# Altium integrated library Renesas Logic.IntLib: 1013 symbols (part 18 of 27)
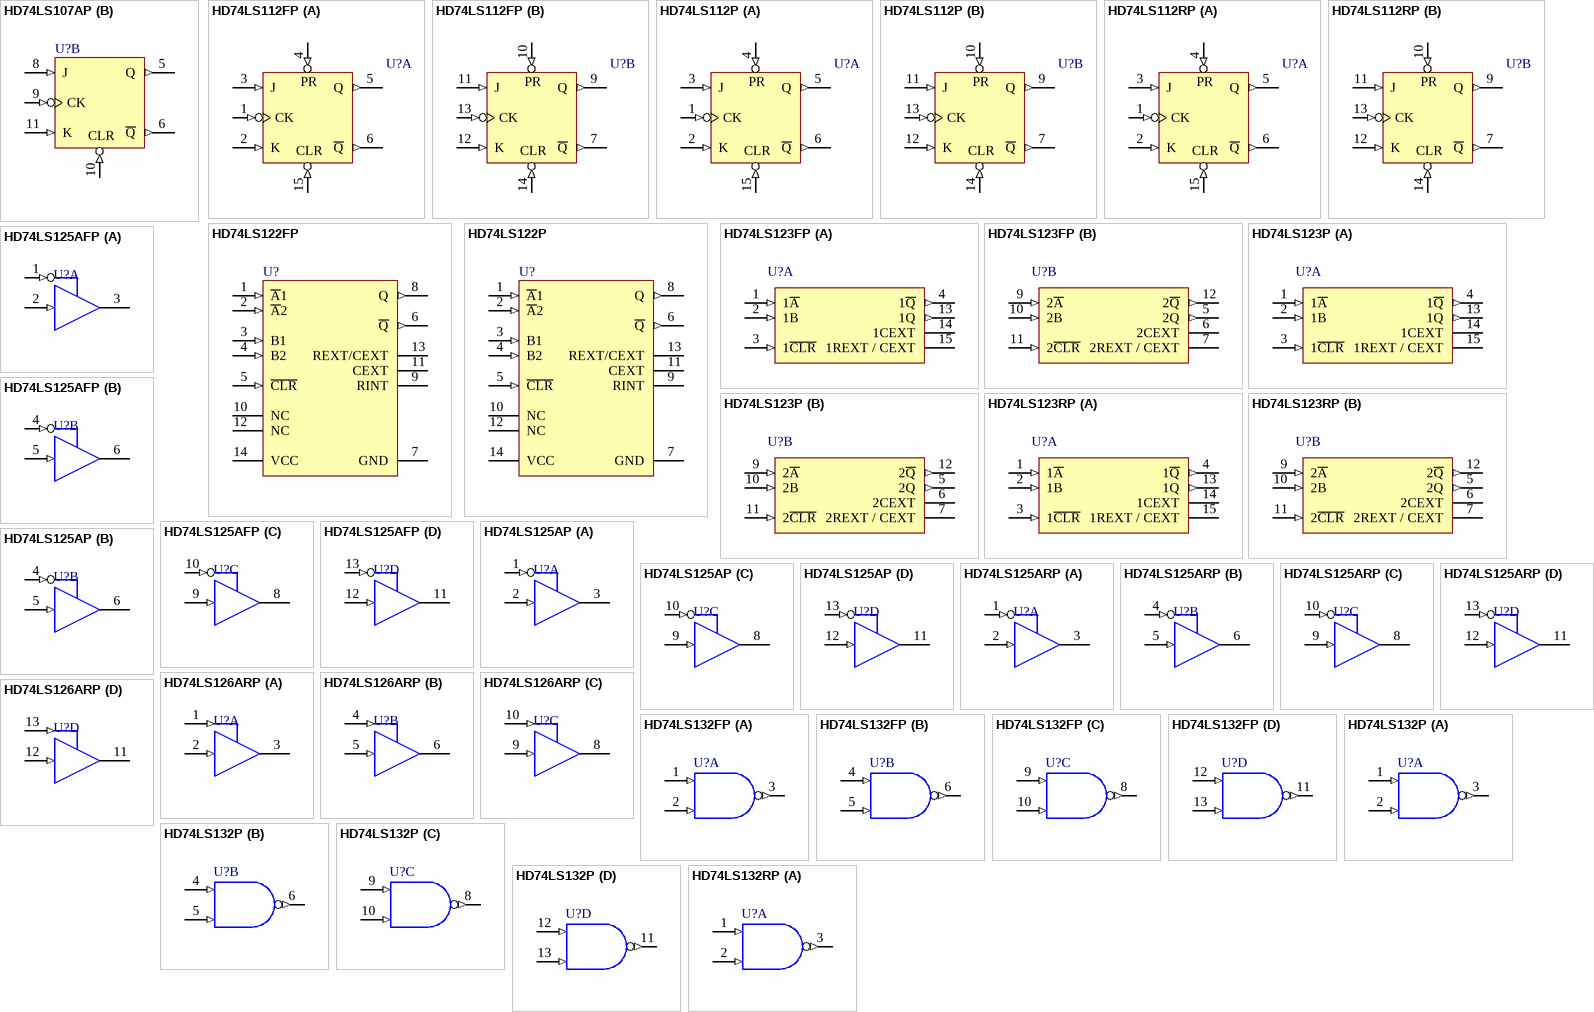
[diagram p70: symbols HD74LS107AP to HD74LS132RP]

## HD74LS123RP
designator U?
Dual Retriggerable Monostable Multivibrators with Clear; Published: 10-Feb-2010; DatasheetVersion: Rev.2.00, Feb-2005; PackageVersion: Sep-2005; PackageReference: PRSP0016DG-A; Publisher: Altium Limited; PackageDescription: 16-Pin Plastic Small Outline Integrated Circuit, 9.9 x 3.95 mm Body, 1.27 mm Pitch; Code_JEITA: P-SOP16-3.95x9.9-1.27; Code_IPC: SOIC127P600-16; ComponentLink1Description: Manufacturer Link; ComponentLink1URL: http://sg.renesas.com/fmwk.jsp?cnt=hd74ls_root.jsp&fp=/products/standard_ic/general_purpose_logic/5v_standard_logic/hd74ls/; ComponentLink2Description: Datasheet; ComponentLink2URL: http://documentation.renesas.com/eng/products/logic/rej03d0429_hd74ls123.pdf; ComponentLink3Description: Packaging Specification; ComponentLink3URL: http://sg.renesas.com/media/products/common_info/package/pdf/ic/code/prsp0016dg_a.pdf
footprint PRSP0016DG-A_N (SOIC, 16-Leads, Body 9.9x3.95mm, Pitch 1.27mm, IPC Medium Density)
footprint PRSP0016DG-A_L (SOIC, 16-Leads, Body 9.9x3.95mm, Pitch 1.27mm, IPC High Density)
footprint PRSP0016DG-A_M (SOIC, 16-Leads, Body 9.9x3.95mm, Pitch 1.27mm, IPC Low Density)
pins on every part: 8 GND (power) hidden, 16 VCC (power) hidden
part A pins: 1 1~{A} (in), 2 1B (in), 3 1~{CLR} (in), 4 1~{Q} (out), 13 1Q (out), 14 1CEXT, 15 1REXT / CEXT
part B pins: 5 2Q (out), 6 2CEXT, 7 2REXT / CEXT, 9 2~{A} (in), 10 2B (in), 11 2~{CLR} (in), 12 2~{Q} (out)

## HD74LS125AFP
designator U?
Quad Bus Buffer Gates with 3-State Outputs; Published: 10-Feb-2010; DatasheetVersion: Rev.2.00, Feb-2005; PackageVersion: Sep-2005; PackageReference: PRSP0014DF-B; Publisher: Altium Limited; PackageDescription: 14-Pin Plastic Small Outline Package, 10.06 x 5.5 mm Body, 1.27 mm Pitch; Code_JEITA: P-SOP14-5.5x10.06-1.27; ComponentLink1Description: Manufacturer Link; ComponentLink1URL: http://sg.renesas.com/fmwk.jsp?cnt=hd74ls_root.jsp&fp=/products/standard_ic/general_purpose_logic/5v_standard_logic/hd74ls/; ComponentLink2Description: Datasheet; ComponentLink2URL: http://documentation.renesas.com/eng/products/logic/rej03d0430_hd74ls125a.pdf; ComponentLink3Description: Packaging Specification; ComponentLink3URL: http://sg.renesas.com/media/products/common_info/package/pdf/ic/code/prsp0014df_b.pdf
footprint PRSP0014DF-B_N (SOP, 14-Leads, Body 10.06x5.5mm, Pitch 1.27mm, IPC Medium Density)
footprint PRSP0014DF-B_L (SOP, 14-Leads, Body 10.06x5.5mm, Pitch 1.27mm, IPC High Density)
footprint PRSP0014DF-B_M (SOP, 14-Leads, Body 10.06x5.5mm, Pitch 1.27mm, IPC Low Density)
pins on every part: 7 GND (power) hidden, 14 VCC (power) hidden
part A pins: 1 1~{C} (in), 2 1A (in), 3 1Y (hiz)
part B pins: 4 2~{C} (in), 5 2A (in), 6 2Y (hiz)
part C pins: 8 3Y (hiz), 9 3A (in), 10 3~{C} (in)
part D pins: 11 4Y (hiz), 12 4A (in), 13 4~{C} (in)

## HD74LS125AP
designator U?
Quad Bus Buffer Gates with 3-State Outputs; Published: 10-Feb-2010; DatasheetVersion: Rev.2.00, Feb-2005; PackageVersion: Sep-2005; PackageReference: PRDP0014AB-B; Publisher: Altium Limited; PackageDescription: 14-Pin Plastic DIP, 19.2 x 6.3 mm Body, 7.62 mm Row Spacing, Pitch 2.54 mm; Code_JEITA: P-DIP14-6.3x19.2-2.54; ComponentLink1Description: Manufacturer Link; ComponentLink1URL: http://sg.renesas.com/fmwk.jsp?cnt=hd74ls_root.jsp&fp=/products/standard_ic/general_purpose_logic/5v_standard_logic/hd74ls/; ComponentLink2Description: Datasheet; ComponentLink2URL: http://documentation.renesas.com/eng/products/logic/rej03d0430_hd74ls125a.pdf; ComponentLink3Description: Packaging Specification; ComponentLink3URL: http://sg.renesas.com/media/products/common_info/package/pdf/ic/code/prdp0014ab_b.pdf
footprint PRDP0014AB-B (DIP, 14-Leads, Row Spacing 7.62mm, Pitch 2.54mm, Body 19.2x6.3mm)
pins on every part: 7 GND (power) hidden, 14 VCC (power) hidden
part A pins: 1 1~{C} (in), 2 1A (in), 3 1Y (hiz)
part B pins: 4 2~{C} (in), 5 2A (in), 6 2Y (hiz)
part C pins: 8 3Y (hiz), 9 3A (in), 10 3~{C} (in)
part D pins: 11 4Y (hiz), 12 4A (in), 13 4~{C} (in)

## HD74LS125ARP
designator U?
Quad Bus Buffer Gates with 3-State Outputs; Published: 10-Feb-2010; DatasheetVersion: Rev.2.00, Feb-2005; PackageVersion: Sep-2005; PackageReference: PRSP0014DE-A; Publisher: Altium Limited; PackageDescription: 14-Pin Plastic Small Outline Integrated Circuit 8.65 x 3.95 mm Body, 1.27 mm Pitch; Code_JEITA: P-SOP14-3.95x8.65-1.27; ComponentLink1Description: Manufacturer Link; ComponentLink1URL: http://sg.renesas.com/fmwk.jsp?cnt=hd74ls_root.jsp&fp=/products/standard_ic/general_purpose_logic/5v_standard_logic/hd74ls/; ComponentLink2Description: Datasheet; ComponentLink2URL: http://documentation.renesas.com/eng/products/logic/rej03d0430_hd74ls125a.pdf; ComponentLink3Description: Packaging Specification; ComponentLink3URL: http://sg.renesas.com/media/products/common_info/package/pdf/ic/code/prsp0014de_a.pdf
footprint PRSP0014DE-A_N (SOIC, 14-Leads, Body 8.65x3.95mm, Pitch 1.27mm, IPC Medium Density)
footprint PRSP0014DE-A_L (SOIC, 14-Leads, Body 8.65x3.95mm, Pitch 1.27mm, IPC High Density)
footprint PRSP0014DE-A_M (SOIC, 14-Leads, Body 8.65x3.95mm, Pitch 1.27mm, IPC Low Density)
pins on every part: 7 GND (power) hidden, 14 VCC (power) hidden
part A pins: 1 1~{C} (in), 2 1A (in), 3 1Y (hiz)
part B pins: 4 2~{C} (in), 5 2A (in), 6 2Y (hiz)
part C pins: 8 3Y (hiz), 9 3A (in), 10 3~{C} (in)
part D pins: 11 4Y (hiz), 12 4A (in), 13 4~{C} (in)

## HD74LS126ARP
designator U?
Quad Bus Buffer Gates with 3-State Outputs; Published: 10-Feb-2010; DatasheetVersion: Rev.3.00, Jul-2005; PackageVersion: Sep-2005; PackageReference: PRSP0014DE-A; Publisher: Altium Limited; PackageDescription: 14-Pin Plastic Small Outline Integrated Circuit 8.65 x 3.95 mm Body, 1.27 mm Pitch; Code_JEITA: P-SOP14-3.95x8.65-1.27; ComponentLink1Description: Manufacturer Link; ComponentLink1URL: http://sg.renesas.com/fmwk.jsp?cnt=hd74ls_root.jsp&fp=/products/standard_ic/general_purpose_logic/5v_standard_logic/hd74ls/; ComponentLink2Description: Datasheet; ComponentLink2URL: http://documentation.renesas.com/eng/products/logic/rej03d0431_hd74ls126a.pdf; ComponentLink3Description: Packaging Specification; ComponentLink3URL: http://sg.renesas.com/media/products/common_info/package/pdf/ic/code/prsp0014de_a.pdf
footprint PRSP0014DE-A_N (SOIC, 14-Leads, Body 8.65x3.95mm, Pitch 1.27mm, IPC Medium Density)
footprint PRSP0014DE-A_L (SOIC, 14-Leads, Body 8.65x3.95mm, Pitch 1.27mm, IPC High Density)
footprint PRSP0014DE-A_M (SOIC, 14-Leads, Body 8.65x3.95mm, Pitch 1.27mm, IPC Low Density)
pins on every part: 7 GND (power) hidden, 14 VCC (power) hidden
part A pins: 1 1C (in), 2 1A (in), 3 1Y (hiz)
part B pins: 4 2C (in), 5 2A (in), 6 2Y (hiz)
part C pins: 8 3Y (hiz), 9 3A (in), 10 3C (in)
part D pins: 11 4Y (hiz), 12 4A (in), 13 4C (in)

## HD74LS132FP
designator U?
Quad 2-Input NAND Schmitt Triggers; Published: 10-Feb-2010; DatasheetVersion: Rev.3.00, Jul-2005; PackageVersion: Sep-2005; PackageReference: PRSP0014DF-B; Publisher: Altium Limited; PackageDescription: 14-Pin Plastic Small Outline Package, 10.06 x 5.5 mm Body, 1.27 mm Pitch; Code_JEITA: P-SOP14-5.5x10.06-1.27; ComponentLink1Description: Manufacturer Link; ComponentLink1URL: http://sg.renesas.com/fmwk.jsp?cnt=hd74ls_root.jsp&fp=/products/standard_ic/general_purpose_logic/5v_standard_logic/hd74ls/; ComponentLink2Description: Datasheet; ComponentLink2URL: http://documentation.renesas.com/eng/products/logic/rej03d0432_hd74ls132.pdf; ComponentLink3Description: Packaging Specification; ComponentLink3URL: http://sg.renesas.com/media/products/common_info/package/pdf/ic/code/prsp0014df_b.pdf
footprint PRSP0014DF-B_N (SOP, 14-Leads, Body 10.06x5.5mm, Pitch 1.27mm, IPC Medium Density)
footprint PRSP0014DF-B_L (SOP, 14-Leads, Body 10.06x5.5mm, Pitch 1.27mm, IPC High Density)
footprint PRSP0014DF-B_M (SOP, 14-Leads, Body 10.06x5.5mm, Pitch 1.27mm, IPC Low Density)
pins on every part: 7 GND (power) hidden, 14 VCC (power) hidden
part A pins: 1 1A (in), 2 1B (in), 3 1Y (out)
part B pins: 4 2A (in), 5 2B (in), 6 2Y (out)
part C pins: 8 3Y (out), 9 3A (in), 10 3B (in)
part D pins: 11 4Y (out), 12 4A (in), 13 4B (in)

## HD74LS132P
designator U?
Quad 2-Input NAND Schmitt Triggers; Published: 10-Feb-2010; DatasheetVersion: Rev.3.00, Jul-2005; PackageVersion: Sep-2005; PackageReference: PRDP0014AB-B; Publisher: Altium Limited; PackageDescription: 14-Pin Plastic DIP, 19.2 x 6.3 mm Body, 7.62 mm Row Spacing, Pitch 2.54 mm; Code_JEITA: P-DIP14-6.3x19.2-2.54; ComponentLink1Description: Manufacturer Link; ComponentLink1URL: http://sg.renesas.com/fmwk.jsp?cnt=hd74ls_root.jsp&fp=/products/standard_ic/general_purpose_logic/5v_standard_logic/hd74ls/; ComponentLink2Description: Datasheet; ComponentLink2URL: http://documentation.renesas.com/eng/products/logic/rej03d0432_hd74ls132.pdf; ComponentLink3Description: Packaging Specification; ComponentLink3URL: http://sg.renesas.com/media/products/common_info/package/pdf/ic/code/prdp0014ab_b.pdf
footprint PRDP0014AB-B (DIP, 14-Leads, Row Spacing 7.62mm, Pitch 2.54mm, Body 19.2x6.3mm)
pins on every part: 7 GND (power) hidden, 14 VCC (power) hidden
part A pins: 1 1A (in), 2 1B (in), 3 1Y (out)
part B pins: 4 2A (in), 5 2B (in), 6 2Y (out)
part C pins: 8 3Y (out), 9 3A (in), 10 3B (in)
part D pins: 11 4Y (out), 12 4A (in), 13 4B (in)

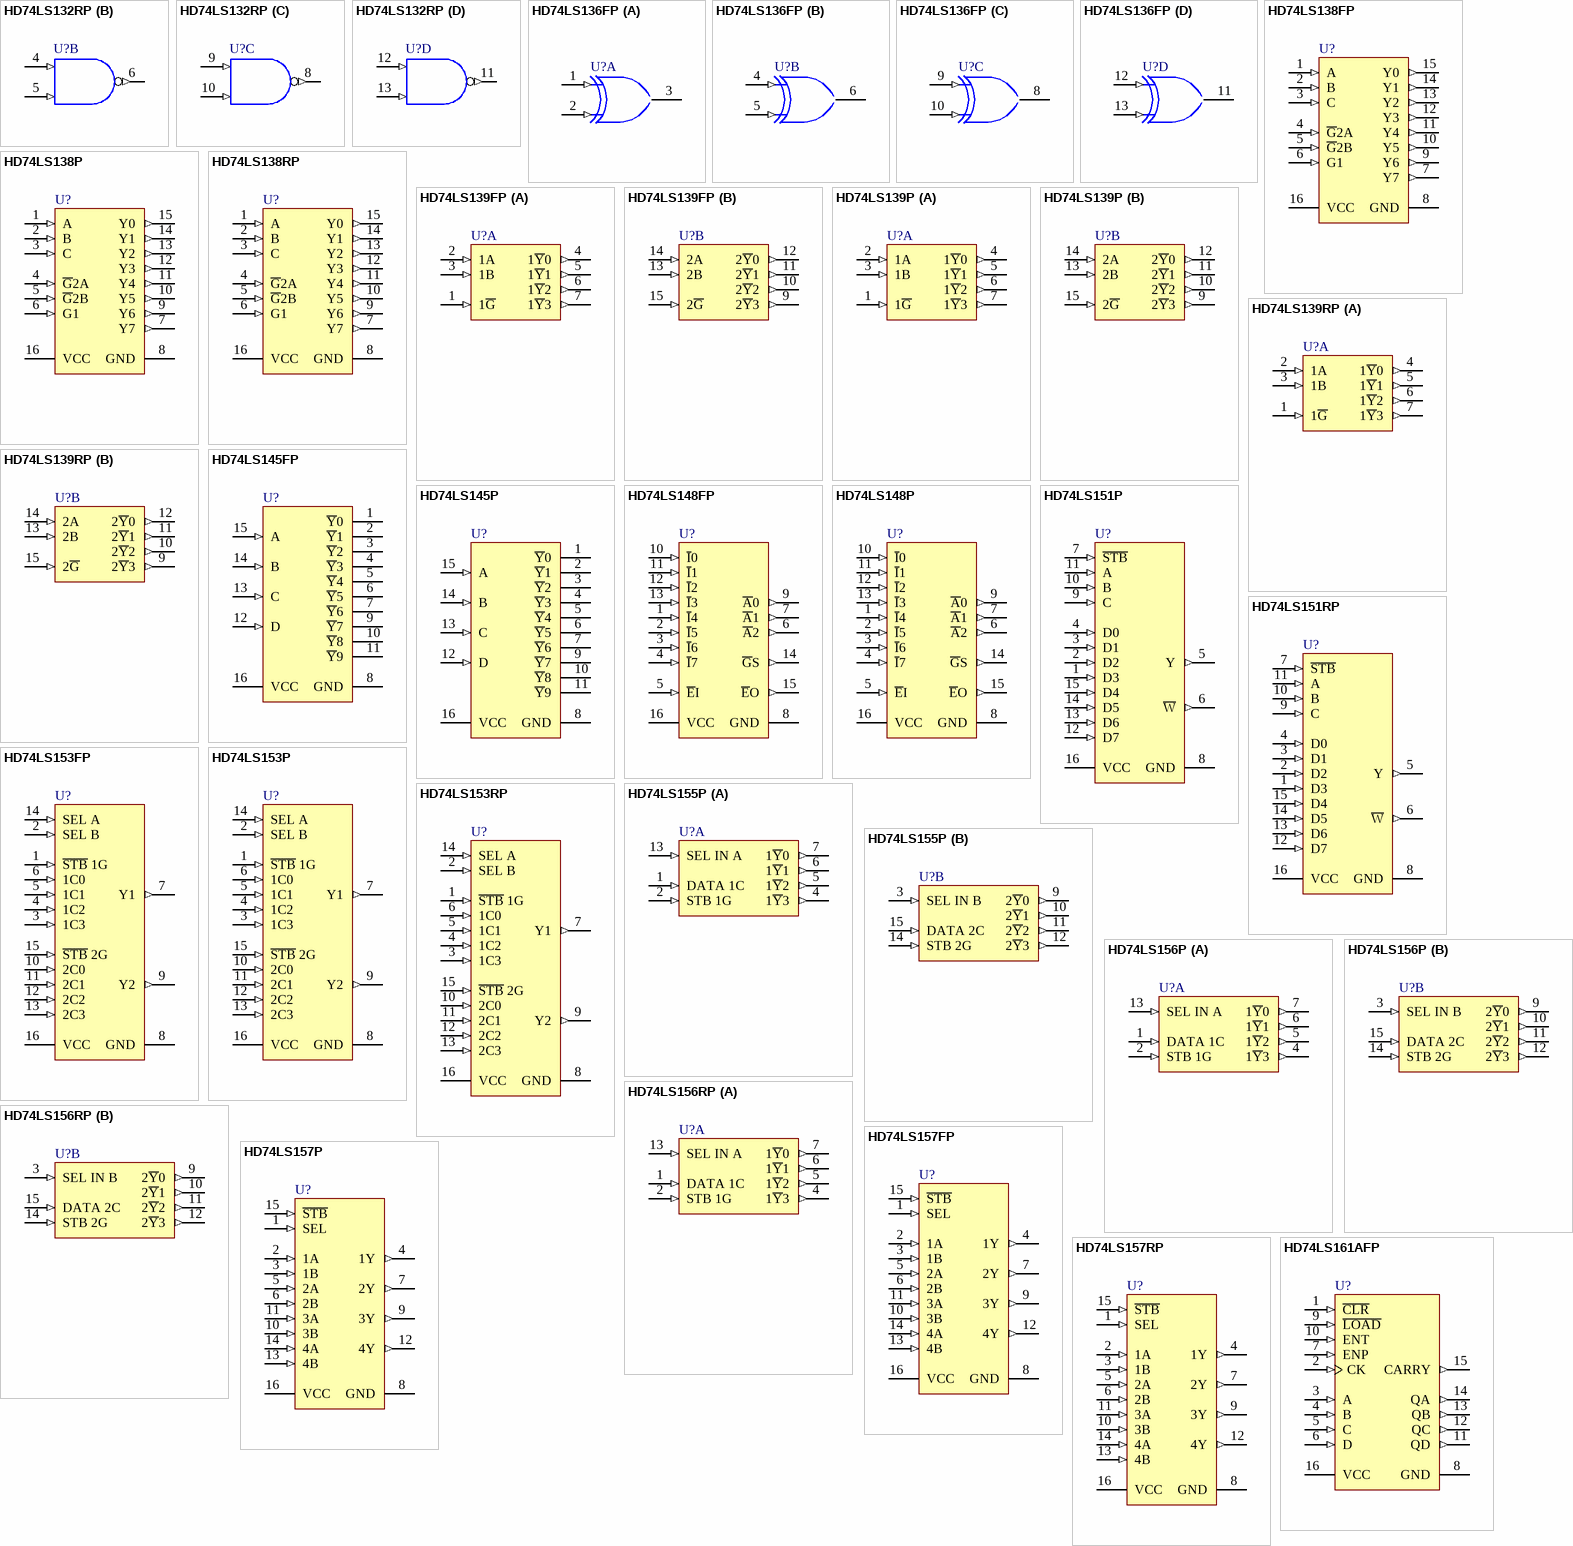
[diagram p35: symbols HD74LS132RP to HD74LS161AFP]

## HD74LS132RP
designator U?
Quad 2-Input NAND Schmitt Triggers; Published: 10-Feb-2010; DatasheetVersion: Rev.3.00, Jul-2005; PackageVersion: Sep-2005; PackageReference: PRSP0014DE-A; Publisher: Altium Limited; PackageDescription: 14-Pin Plastic Small Outline Integrated Circuit 8.65 x 3.95 mm Body, 1.27 mm Pitch; Code_JEITA: P-SOP14-3.95x8.65-1.27; ComponentLink1Description: Manufacturer Link; ComponentLink1URL: http://sg.renesas.com/fmwk.jsp?cnt=hd74ls_root.jsp&fp=/products/standard_ic/general_purpose_logic/5v_standard_logic/hd74ls/; ComponentLink2Description: Datasheet; ComponentLink2URL: http://documentation.renesas.com/eng/products/logic/rej03d0432_hd74ls132.pdf; ComponentLink3Description: Packaging Specification; ComponentLink3URL: http://sg.renesas.com/media/products/common_info/package/pdf/ic/code/prsp0014de_a.pdf
footprint PRSP0014DE-A_N (SOIC, 14-Leads, Body 8.65x3.95mm, Pitch 1.27mm, IPC Medium Density)
footprint PRSP0014DE-A_L (SOIC, 14-Leads, Body 8.65x3.95mm, Pitch 1.27mm, IPC High Density)
footprint PRSP0014DE-A_M (SOIC, 14-Leads, Body 8.65x3.95mm, Pitch 1.27mm, IPC Low Density)
pins on every part: 7 GND (power) hidden, 14 VCC (power) hidden
part A pins: 1 1A (in), 2 1B (in), 3 1Y (out)
part B pins: 4 2A (in), 5 2B (in), 6 2Y (out)
part C pins: 8 3Y (out), 9 3A (in), 10 3B (in)
part D pins: 11 4Y (out), 12 4A (in), 13 4B (in)

## HD74LS136FP
designator U?
Quad 2-Input Exclusive-OR Gates with Open Collector Outputs; Published: 10-Feb-2010; DatasheetVersion: Rev.3.00, Jul-2005; PackageVersion: Sep-2005; PackageReference: PRSP0014DF-B; Publisher: Altium Limited; PackageDescription: 14-Pin Plastic Small Outline Package, 10.06 x 5.5 mm Body, 1.27 mm Pitch; Code_JEITA: P-SOP14-5.5x10.06-1.27; ComponentLink1Description: Manufacturer Link; ComponentLink1URL: http://sg.renesas.com/fmwk.jsp?cnt=hd74ls_root.jsp&fp=/products/standard_ic/general_purpose_logic/5v_standard_logic/hd74ls/; ComponentLink2Description: Datasheet; ComponentLink2URL: http://documentation.renesas.com/eng/products/logic/rej03d0433_hd74ls136.pdf; ComponentLink3Description: Packaging Specification; ComponentLink3URL: http://sg.renesas.com/media/products/common_info/package/pdf/ic/code/prsp0014df_b.pdf
footprint PRSP0014DF-B_N (SOP, 14-Leads, Body 10.06x5.5mm, Pitch 1.27mm, IPC Medium Density)
footprint PRSP0014DF-B_L (SOP, 14-Leads, Body 10.06x5.5mm, Pitch 1.27mm, IPC High Density)
footprint PRSP0014DF-B_M (SOP, 14-Leads, Body 10.06x5.5mm, Pitch 1.27mm, IPC Low Density)
pins on every part: 7 GND (power) hidden, 14 VCC (power) hidden
part A pins: 1 1A (in), 2 1B (in), 3 1Y (oc)
part B pins: 4 2A (in), 5 2B (in), 6 2Y (oc)
part C pins: 8 3Y (oc), 9 3A (in), 10 3B (in)
part D pins: 11 4Y (oc), 12 4A (in), 13 4B (in)

## HD74LS138FP
designator U?
3-to-8-Line Decoder / Demultiplexer; Published: 10-Feb-2010; DatasheetVersion: Rev.3.00, Jul-2005; PackageVersion: Sep-2005; PackageReference: PRSP0016DH-B; Publisher: Altium Limited; PackageDescription: 16-Pin Plastic Small Outline Package 1.27 mm Pitch; Code_JEITA: P-SOP16-5.5x10.06-1.27; ComponentLink1Description: Manufacturer Link; ComponentLink1URL: http://sg.renesas.com/fmwk.jsp?cnt=hd74ls_root.jsp&fp=/products/standard_ic/general_purpose_logic/5v_standard_logic/hd74ls/; ComponentLink2Description: Datasheet; ComponentLink2URL: http://documentation.renesas.com/eng/products/logic/rej03d0434_hd74ls138.pdf; ComponentLink3Description: Packaging Specification; ComponentLink3URL: http://sg.renesas.com/media/products/common_info/package/pdf/ic/code/prsp0016dh_b.pdf
footprint PRSP0016DH-B_N (SOP, 16-Leads, Body 10.06x5.5mm, Pitch 1.27mm, IPC Medium Density)
footprint PRSP0016DH-B_L (SOP, 16-Leads, Body 10.06x5.5mm, Pitch 1.27mm, IPC High Density)
footprint PRSP0016DH-B_M (SOP, 16-Leads, Body 10.06x5.5mm, Pitch 1.27mm, IPC Low Density)
pins: 1 A (in), 2 B (in), 3 C (in), 4 ~{G}2A (in), 5 ~{G}2B (in), 6 G1 (in), 7 Y7 (out), 8 GND (power), 9 Y6 (out), 10 Y5 (out), 11 Y4 (out), 12 Y3 (out), 13 Y2 (out), 14 Y1 (out), 15 Y0 (out), 16 VCC (power)

## HD74LS138P
designator U?
3-to-8-Line Decoder / Demultiplexer; Published: 10-Feb-2010; DatasheetVersion: Rev.3.00, Jul-2005; PackageVersion: Sep-2005; PackageReference: PRDP0016AE-B; Publisher: Altium Limited; PackageDescription: DIP, Plastic, 16-Pin, Row Spacing 7.62 mm, Pitch 2.54 mm; Code_JEITA: P-DIP16-6.3x19.2-2.54; ComponentLink1Description: Manufacturer Link; ComponentLink1URL: http://sg.renesas.com/fmwk.jsp?cnt=hd74ls_root.jsp&fp=/products/standard_ic/general_purpose_logic/5v_standard_logic/hd74ls/; ComponentLink2Description: Datasheet; ComponentLink2URL: http://documentation.renesas.com/eng/products/logic/rej03d0434_hd74ls138.pdf; ComponentLink3Description: Packaging Specification; ComponentLink3URL: http://sg.renesas.com/media/products/common_info/package/pdf/ic/code/prdp0016ae_b.pdf
footprint PRDP0016AE-B (DIP, 16-Leads, Row Spacing 7.62mm, Pitch 2.54mm, Body 19.2x6.3mm)
pins: 1 A (in), 2 B (in), 3 C (in), 4 ~{G}2A (in), 5 ~{G}2B (in), 6 G1 (in), 7 Y7 (out), 8 GND (power), 9 Y6 (out), 10 Y5 (out), 11 Y4 (out), 12 Y3 (out), 13 Y2 (out), 14 Y1 (out), 15 Y0 (out), 16 VCC (power)

## HD74LS138RP
designator U?
3-to-8-Line Decoder / Demultiplexer; Published: 10-Feb-2010; DatasheetVersion: Rev.3.00, Jul-2005; PackageVersion: Sep-2005; PackageReference: PRSP0016DG-A; Publisher: Altium Limited; PackageDescription: 16-Pin Plastic Small Outline Integrated Circuit, 9.9 x 3.95 mm Body, 1.27 mm Pitch; Code_JEITA: P-SOP16-3.95x9.9-1.27; Code_IPC: SOIC127P600-16; ComponentLink1Description: Manufacturer Link; ComponentLink1URL: http://sg.renesas.com/fmwk.jsp?cnt=hd74ls_root.jsp&fp=/products/standard_ic/general_purpose_logic/5v_standard_logic/hd74ls/; ComponentLink2Description: Datasheet; ComponentLink2URL: http://documentation.renesas.com/eng/products/logic/rej03d0434_hd74ls138.pdf; ComponentLink3Description: Packaging Specification; ComponentLink3URL: http://sg.renesas.com/media/products/common_info/package/pdf/ic/code/prsp0016dg_a.pdf
footprint PRSP0016DG-A_N (SOIC, 16-Leads, Body 9.9x3.95mm, Pitch 1.27mm, IPC Medium Density)
footprint PRSP0016DG-A_L (SOIC, 16-Leads, Body 9.9x3.95mm, Pitch 1.27mm, IPC High Density)
footprint PRSP0016DG-A_M (SOIC, 16-Leads, Body 9.9x3.95mm, Pitch 1.27mm, IPC Low Density)
pins: 1 A (in), 2 B (in), 3 C (in), 4 ~{G}2A (in), 5 ~{G}2B (in), 6 G1 (in), 7 Y7 (out), 8 GND (power), 9 Y6 (out), 10 Y5 (out), 11 Y4 (out), 12 Y3 (out), 13 Y2 (out), 14 Y1 (out), 15 Y0 (out), 16 VCC (power)

## HD74LS139FP
designator U?
Dual 2-Line-to-4-Line Decoders / Demultiplexers; Published: 10-Feb-2010; DatasheetVersion: Rev.2.00, Feb-2005; PackageVersion: Sep-2005; PackageReference: PRSP0016DH-B; Publisher: Altium Limited; PackageDescription: 16-Pin Plastic Small Outline Package 1.27 mm Pitch; Code_JEITA: P-SOP16-5.5x10.06-1.27; ComponentLink1Description: Manufacturer Link; ComponentLink1URL: http://sg.renesas.com/fmwk.jsp?cnt=hd74ls_root.jsp&fp=/products/standard_ic/general_purpose_logic/5v_standard_logic/hd74ls/; ComponentLink2Description: Datasheet; ComponentLink2URL: http://documentation.renesas.com/eng/products/logic/rej03d0435_hd74ls139.pdf; ComponentLink3Description: Packaging Specification; ComponentLink3URL: http://sg.renesas.com/media/products/common_info/package/pdf/ic/code/prsp0016dh_b.pdf
footprint PRSP0016DH-B_N (SOP, 16-Leads, Body 10.06x5.5mm, Pitch 1.27mm, IPC Medium Density)
footprint PRSP0016DH-B_L (SOP, 16-Leads, Body 10.06x5.5mm, Pitch 1.27mm, IPC High Density)
footprint PRSP0016DH-B_M (SOP, 16-Leads, Body 10.06x5.5mm, Pitch 1.27mm, IPC Low Density)
pins on every part: 8 GND (power) hidden, 16 VCC (power) hidden
part A pins: 1 1~{G} (in), 2 1A (in), 3 1B (in), 4 1~{Y}0 (out), 5 1~{Y}1 (out), 6 1~{Y}2 (out), 7 1~{Y}3 (out)
part B pins: 9 2~{Y}3 (out), 10 2~{Y}2 (out), 11 2~{Y}1 (out), 12 2~{Y}0 (out), 13 2B (in), 14 2A (in), 15 2~{G} (in)

## HD74LS139P
designator U?
Dual 2-Line-to-4-Line Decoders / Demultiplexers; Published: 10-Feb-2010; DatasheetVersion: Rev.2.00, Feb-2005; PackageVersion: Sep-2005; PackageReference: PRDP0016AE-B; Publisher: Altium Limited; PackageDescription: DIP, Plastic, 16-Pin, Row Spacing 7.62 mm, Pitch 2.54 mm; Code_JEITA: P-DIP16-6.3x19.2-2.54; ComponentLink1Description: Manufacturer Link; ComponentLink1URL: http://sg.renesas.com/fmwk.jsp?cnt=hd74ls_root.jsp&fp=/products/standard_ic/general_purpose_logic/5v_standard_logic/hd74ls/; ComponentLink2Description: Datasheet; ComponentLink2URL: http://documentation.renesas.com/eng/products/logic/rej03d0435_hd74ls139.pdf; ComponentLink3Description: Packaging Specification; ComponentLink3URL: http://sg.renesas.com/media/products/common_info/package/pdf/ic/code/prdp0016ae_b.pdf
footprint PRDP0016AE-B (DIP, 16-Leads, Row Spacing 7.62mm, Pitch 2.54mm, Body 19.2x6.3mm)
pins on every part: 8 GND (power) hidden, 16 VCC (power) hidden
part A pins: 1 1~{G} (in), 2 1A (in), 3 1B (in), 4 1~{Y}0 (out), 5 1~{Y}1 (out), 6 1~{Y}2 (out), 7 1~{Y}3 (out)
part B pins: 9 2~{Y}3 (out), 10 2~{Y}2 (out), 11 2~{Y}1 (out), 12 2~{Y}0 (out), 13 2B (in), 14 2A (in), 15 2~{G} (in)

## HD74LS139RP
designator U?
Dual 2-Line-to-4-Line Decoders / Demultiplexers; Published: 10-Feb-2010; DatasheetVersion: Rev.2.00, Feb-2005; PackageVersion: Sep-2005; PackageReference: PRSP0016DG-A; Publisher: Altium Limited; PackageDescription: 16-Pin Plastic Small Outline Integrated Circuit, 9.9 x 3.95 mm Body, 1.27 mm Pitch; Code_JEITA: P-SOP16-3.95x9.9-1.27; Code_IPC: SOIC127P600-16; ComponentLink1Description: Manufacturer Link; ComponentLink1URL: http://sg.renesas.com/fmwk.jsp?cnt=hd74ls_root.jsp&fp=/products/standard_ic/general_purpose_logic/5v_standard_logic/hd74ls/; ComponentLink2Description: Datasheet; ComponentLink2URL: http://documentation.renesas.com/eng/products/logic/rej03d0435_hd74ls139.pdf; ComponentLink3Description: Packaging Specification; ComponentLink3URL: http://sg.renesas.com/media/products/common_info/package/pdf/ic/code/prsp0016dg_a.pdf
footprint PRSP0016DG-A_N (SOIC, 16-Leads, Body 9.9x3.95mm, Pitch 1.27mm, IPC Medium Density)
footprint PRSP0016DG-A_L (SOIC, 16-Leads, Body 9.9x3.95mm, Pitch 1.27mm, IPC High Density)
footprint PRSP0016DG-A_M (SOIC, 16-Leads, Body 9.9x3.95mm, Pitch 1.27mm, IPC Low Density)
pins on every part: 8 GND (power) hidden, 16 VCC (power) hidden
part A pins: 1 1~{G} (in), 2 1A (in), 3 1B (in), 4 1~{Y}0 (out), 5 1~{Y}1 (out), 6 1~{Y}2 (out), 7 1~{Y}3 (out)
part B pins: 9 2~{Y}3 (out), 10 2~{Y}2 (out), 11 2~{Y}1 (out), 12 2~{Y}0 (out), 13 2B (in), 14 2A (in), 15 2~{G} (in)

## HD74LS145FP
designator U?
BCD-to-Decimal Decoder / Driver with 15V Outputs; Published: 10-Feb-2010; DatasheetVersion: Rev.3.00, Jul-2005; PackageVersion: Sep-2005; PackageReference: PRSP0016DH-B; Publisher: Altium Limited; PackageDescription: 16-Pin Plastic Small Outline Package 1.27 mm Pitch; Code_JEITA: P-SOP16-5.5x10.06-1.27; ComponentLink1Description: Manufacturer Link; ComponentLink1URL: http://sg.renesas.com/fmwk.jsp?cnt=hd74ls_root.jsp&fp=/products/standard_ic/general_purpose_logic/5v_standard_logic/hd74ls/; ComponentLink2Description: Datasheet; ComponentLink2URL: http://documentation.renesas.com/eng/products/logic/rej03d0436_hd74ls145.pdf; ComponentLink3Description: Packaging Specification; ComponentLink3URL: http://sg.renesas.com/media/products/common_info/package/pdf/ic/code/prsp0016dh_b.pdf
footprint PRSP0016DH-B_N (SOP, 16-Leads, Body 10.06x5.5mm, Pitch 1.27mm, IPC Medium Density)
footprint PRSP0016DH-B_L (SOP, 16-Leads, Body 10.06x5.5mm, Pitch 1.27mm, IPC High Density)
footprint PRSP0016DH-B_M (SOP, 16-Leads, Body 10.06x5.5mm, Pitch 1.27mm, IPC Low Density)
pins: 1 ~{Y}0 (oc), 2 ~{Y}1 (oc), 3 ~{Y}2 (oc), 4 ~{Y}3 (oc), 5 ~{Y}4 (oc), 6 ~{Y}5 (oc), 7 ~{Y}6 (oc), 8 GND (power), 9 ~{Y}7 (oc), 10 ~{Y}8 (oc), 11 ~{Y}9 (oc), 12 D (in), 13 C (in), 14 B (in), 15 A (in), 16 VCC (power)

## HD74LS145P
designator U?
BCD-to-Decimal Decoder / Driver with 15V Outputs; Published: 10-Feb-2010; DatasheetVersion: Rev.3.00, Jul-2005; PackageVersion: Sep-2005; PackageReference: PRDP0016AE-B; Publisher: Altium Limited; PackageDescription: DIP, Plastic, 16-Pin, Row Spacing 7.62 mm, Pitch 2.54 mm; Code_JEITA: P-DIP16-6.3x19.2-2.54; ComponentLink1Description: Manufacturer Link; ComponentLink1URL: http://sg.renesas.com/fmwk.jsp?cnt=hd74ls_root.jsp&fp=/products/standard_ic/general_purpose_logic/5v_standard_logic/hd74ls/; ComponentLink2Description: Datasheet; ComponentLink2URL: http://documentation.renesas.com/eng/products/logic/rej03d0436_hd74ls145.pdf; ComponentLink3Description: Packaging Specification; ComponentLink3URL: http://sg.renesas.com/media/products/common_info/package/pdf/ic/code/prdp0016ae_b.pdf
footprint PRDP0016AE-B (DIP, 16-Leads, Row Spacing 7.62mm, Pitch 2.54mm, Body 19.2x6.3mm)
pins: 1 ~{Y}0 (oc), 2 ~{Y}1 (oc), 3 ~{Y}2 (oc), 4 ~{Y}3 (oc), 5 ~{Y}4 (oc), 6 ~{Y}5 (oc), 7 ~{Y}6 (oc), 8 GND (power), 9 ~{Y}7 (oc), 10 ~{Y}8 (oc), 11 ~{Y}9 (oc), 12 D (in), 13 C (in), 14 B (in), 15 A (in), 16 VCC (power)

## HD74LS148FP
designator U?
8-Line-to-3-Line Octal Priority Encoder; Published: 10-Feb-2010; DatasheetVersion: Rev.2.00, Feb-2005; PackageVersion: Sep-2005; PackageReference: PRSP0016DH-B; Publisher: Altium Limited; PackageDescription: 16-Pin Plastic Small Outline Package 1.27 mm Pitch; Code_JEITA: P-SOP16-5.5x10.06-1.27; ComponentLink1Description: Manufacturer Link; ComponentLink1URL: http://sg.renesas.com/fmwk.jsp?cnt=hd74ls_root.jsp&fp=/products/standard_ic/general_purpose_logic/5v_standard_logic/hd74ls/; ComponentLink2Description: Datasheet; ComponentLink2URL: http://documentation.renesas.com/eng/products/logic/rej03d0437_hd74ls148.pdf; ComponentLink3Description: Packaging Specification; ComponentLink3URL: http://sg.renesas.com/media/products/common_info/package/pdf/ic/code/prsp0016dh_b.pdf
footprint PRSP0016DH-B_N (SOP, 16-Leads, Body 10.06x5.5mm, Pitch 1.27mm, IPC Medium Density)
footprint PRSP0016DH-B_L (SOP, 16-Leads, Body 10.06x5.5mm, Pitch 1.27mm, IPC High Density)
footprint PRSP0016DH-B_M (SOP, 16-Leads, Body 10.06x5.5mm, Pitch 1.27mm, IPC Low Density)
pins: 1 ~{I}4 (in), 2 ~{I}5 (in), 3 ~{I}6 (in), 4 ~{I}7 (in), 5 ~{E}I (in), 6 ~{A}2 (out), 7 ~{A}1 (out), 8 GND (power), 9 ~{A}0 (out), 10 ~{I}0 (in), 11 ~{I}1 (in), 12 ~{I}2 (in), 13 ~{I}3 (in), 14 ~{G}S (out), 15 ~{E}O (out), 16 VCC (power)

## HD74LS148P
designator U?
8-Line-to-3-Line Octal Priority Encoder; Published: 10-Feb-2010; DatasheetVersion: Rev.2.00, Feb-2005; PackageVersion: Sep-2005; PackageReference: PRDP0016AE-B; Publisher: Altium Limited; PackageDescription: DIP, Plastic, 16-Pin, Row Spacing 7.62 mm, Pitch 2.54 mm; Code_JEITA: P-DIP16-6.3x19.2-2.54; ComponentLink1Description: Manufacturer Link; ComponentLink1URL: http://sg.renesas.com/fmwk.jsp?cnt=hd74ls_root.jsp&fp=/products/standard_ic/general_purpose_logic/5v_standard_logic/hd74ls/; ComponentLink2Description: Datasheet; ComponentLink2URL: http://documentation.renesas.com/eng/products/logic/rej03d0437_hd74ls148.pdf; ComponentLink3Description: Packaging Specification; ComponentLink3URL: http://sg.renesas.com/media/products/common_info/package/pdf/ic/code/prdp0016ae_b.pdf
footprint PRDP0016AE-B (DIP, 16-Leads, Row Spacing 7.62mm, Pitch 2.54mm, Body 19.2x6.3mm)
pins: 1 ~{I}4 (in), 2 ~{I}5 (in), 3 ~{I}6 (in), 4 ~{I}7 (in), 5 ~{E}I (in), 6 ~{A}2 (out), 7 ~{A}1 (out), 8 GND (power), 9 ~{A}0 (out), 10 ~{I}0 (in), 11 ~{I}1 (in), 12 ~{I}2 (in), 13 ~{I}3 (in), 14 ~{G}S (out), 15 ~{E}O (out), 16 VCC (power)

## HD74LS151P
designator U?
1-of-8 Data Selector / Multiplexer with strobe; Published: 10-Feb-2010; DatasheetVersion: Rev.3.00, May-2006; PackageVersion: Sep-2005; PackageReference: PRDP0016AE-B; Publisher: Altium Limited; PackageDescription: DIP, Plastic, 16-Pin, Row Spacing 7.62 mm, Pitch 2.54 mm; Code_JEITA: P-DIP16-6.3x19.2-2.54; ComponentLink1Description: Manufacturer Link; ComponentLink1URL: http://sg.renesas.com/fmwk.jsp?cnt=hd74ls_root.jsp&fp=/products/standard_ic/general_purpose_logic/5v_standard_logic/hd74ls/; ComponentLink2Description: Datasheet; ComponentLink2URL: http://documentation.renesas.com/eng/products/logic/rej03d0497_hd74ls151.pdf; ComponentLink3Description: Packaging Specification; ComponentLink3URL: http://sg.renesas.com/media/products/common_info/package/pdf/ic/code/prdp0016ae_b.pdf
footprint PRDP0016AE-B (DIP, 16-Leads, Row Spacing 7.62mm, Pitch 2.54mm, Body 19.2x6.3mm)
pins: 1 D3 (in), 2 D2 (in), 3 D1 (in), 4 D0 (in), 5 Y (out), 6 ~{W} (out), 7 ~{STB} (in), 8 GND (power), 9 C (in), 10 B (in), 11 A (in), 12 D7 (in), 13 D6 (in), 14 D5 (in), 15 D4 (in), 16 VCC (power)

## HD74LS151RP
designator U?
1-of-8 Data Selector / Multiplexer with strobe; Published: 10-Feb-2010; DatasheetVersion: Rev.3.00, May-2006; PackageVersion: Sep-2005; PackageReference: PRSP0016DG-A; Publisher: Altium Limited; PackageDescription: 16-Pin Plastic Small Outline Integrated Circuit, 9.9 x 3.95 mm Body, 1.27 mm Pitch; Code_JEITA: P-SOP16-3.95x9.9-1.27; Code_IPC: SOIC127P600-16; ComponentLink1Description: Manufacturer Link; ComponentLink1URL: http://sg.renesas.com/fmwk.jsp?cnt=hd74ls_root.jsp&fp=/products/standard_ic/general_purpose_logic/5v_standard_logic/hd74ls/; ComponentLink2Description: Datasheet; ComponentLink2URL: http://documentation.renesas.com/eng/products/logic/rej03d0497_hd74ls151.pdf; ComponentLink3Description: Packaging Specification; ComponentLink3URL: http://sg.renesas.com/media/products/common_info/package/pdf/ic/code/prsp0016dg_a.pdf
footprint PRSP0016DG-A_N (SOIC, 16-Leads, Body 9.9x3.95mm, Pitch 1.27mm, IPC Medium Density)
footprint PRSP0016DG-A_L (SOIC, 16-Leads, Body 9.9x3.95mm, Pitch 1.27mm, IPC High Density)
footprint PRSP0016DG-A_M (SOIC, 16-Leads, Body 9.9x3.95mm, Pitch 1.27mm, IPC Low Density)
pins: 1 D3 (in), 2 D2 (in), 3 D1 (in), 4 D0 (in), 5 Y (out), 6 ~{W} (out), 7 ~{STB} (in), 8 GND (power), 9 C (in), 10 B (in), 11 A (in), 12 D7 (in), 13 D6 (in), 14 D5 (in), 15 D4 (in), 16 VCC (power)

## HD74LS153FP
designator U?
Dual 4-Line to 1-Line Data Selectors / Multiplexers; Published: 10-Feb-2010; DatasheetVersion: Rev.2.00, Feb-2005; PackageVersion: Sep-2005; PackageReference: PRSP0016DH-B; Publisher: Altium Limited; PackageDescription: 16-Pin Plastic Small Outline Package 1.27 mm Pitch; Code_JEITA: P-SOP16-5.5x10.06-1.27; ComponentLink1Description: Manufacturer Link; ComponentLink1URL: http://sg.renesas.com/fmwk.jsp?cnt=hd74ls_root.jsp&fp=/products/standard_ic/general_purpose_logic/5v_standard_logic/hd74ls/; ComponentLink2Description: Datasheet; ComponentLink2URL: http://documentation.renesas.com/eng/products/logic/rej03d0439_hd74ls153.pdf; ComponentLink3Description: Packaging Specification; ComponentLink3URL: http://sg.renesas.com/media/products/common_info/package/pdf/ic/code/prsp0016dh_b.pdf
footprint PRSP0016DH-B_N (SOP, 16-Leads, Body 10.06x5.5mm, Pitch 1.27mm, IPC Medium Density)
footprint PRSP0016DH-B_L (SOP, 16-Leads, Body 10.06x5.5mm, Pitch 1.27mm, IPC High Density)
footprint PRSP0016DH-B_M (SOP, 16-Leads, Body 10.06x5.5mm, Pitch 1.27mm, IPC Low Density)
pins: 1 ~{STB} 1G (in), 2 SEL B (in), 3 1C3 (in), 4 1C2 (in), 5 1C1 (in), 6 1C0 (in), 7 Y1 (out), 8 GND (power), 9 Y2 (out), 10 2C0 (in), 11 2C1 (in), 12 2C2 (in), 13 2C3 (in), 14 SEL A (in), 15 ~{STB} 2G (in), 16 VCC (power)

## HD74LS153P
designator U?
Dual 4-Line-to-1-Line Data Selector / Multiplexer; Published: 10-Feb-2010; DatasheetVersion: Rev.2.00, Feb-2005; PackageVersion: Sep-2005; PackageReference: PRDP0016AE-B; Publisher: Altium Limited; PackageDescription: DIP, Plastic, 16-Pin, Row Spacing 7.62 mm, Pitch 2.54 mm; Code_JEITA: P-DIP16-6.3x19.2-2.54; ComponentLink1Description: Manufacturer Link; ComponentLink1URL: http://sg.renesas.com/fmwk.jsp?cnt=hd74ls_root.jsp&fp=/products/standard_ic/general_purpose_logic/5v_standard_logic/hd74ls/; ComponentLink2Description: Datasheet; ComponentLink2URL: http://documentation.renesas.com/eng/products/logic/rej03d0439_hd74ls153.pdf; ComponentLink3Description: Packaging Specification; ComponentLink3URL: http://sg.renesas.com/media/products/common_info/package/pdf/ic/code/prdp0016ae_b.pdf
footprint PRDP0016AE-B (DIP, 16-Leads, Row Spacing 7.62mm, Pitch 2.54mm, Body 19.2x6.3mm)
pins: 1 ~{STB} 1G (in), 2 SEL B (in), 3 1C3 (in), 4 1C2 (in), 5 1C1 (in), 6 1C0 (in), 7 Y1 (out), 8 GND (power), 9 Y2 (out), 10 2C0 (in), 11 2C1 (in), 12 2C2 (in), 13 2C3 (in), 14 SEL A (in), 15 ~{STB} 2G (in), 16 VCC (power)

## HD74LS153RP
designator U?
Dual 4-Line-to-1-Line Data Selector / Multiplexer; Published: 10-Feb-2010; DatasheetVersion: Rev.2.00, Feb-2005; PackageVersion: Sep-2005; PackageReference: PRSP0016DG-A; Publisher: Altium Limited; PackageDescription: 16-Pin Plastic Small Outline Integrated Circuit, 9.9 x 3.95 mm Body, 1.27 mm Pitch; Code_JEITA: P-SOP16-3.95x9.9-1.27; Code_IPC: SOIC127P600-16; ComponentLink1Description: Manufacturer Link; ComponentLink1URL: http://sg.renesas.com/fmwk.jsp?cnt=hd74ls_root.jsp&fp=/products/standard_ic/general_purpose_logic/5v_standard_logic/hd74ls/; ComponentLink2Description: Datasheet; ComponentLink2URL: http://documentation.renesas.com/eng/products/logic/rej03d0439_hd74ls153.pdf; ComponentLink3Description: Packaging Specification; ComponentLink3URL: http://sg.renesas.com/media/products/common_info/package/pdf/ic/code/prsp0016dg_a.pdf
footprint PRSP0016DG-A_N (SOIC, 16-Leads, Body 9.9x3.95mm, Pitch 1.27mm, IPC Medium Density)
footprint PRSP0016DG-A_L (SOIC, 16-Leads, Body 9.9x3.95mm, Pitch 1.27mm, IPC High Density)
footprint PRSP0016DG-A_M (SOIC, 16-Leads, Body 9.9x3.95mm, Pitch 1.27mm, IPC Low Density)
pins: 1 ~{STB} 1G (in), 2 SEL B (in), 3 1C3 (in), 4 1C2 (in), 5 1C1 (in), 6 1C0 (in), 7 Y1 (out), 8 GND (power), 9 Y2 (out), 10 2C0 (in), 11 2C1 (in), 12 2C2 (in), 13 2C3 (in), 14 SEL A (in), 15 ~{STB} 2G (in), 16 VCC (power)

## HD74LS155P
designator U?
Dual 2-Line-to-4-Line Decoders / Demultiplexers; Published: 10-Feb-2010; DatasheetVersion: Rev.2.00, Feb-2005; PackageVersion: Sep-2005; PackageReference: PRDP0016AE-B; Publisher: Altium Limited; PackageDescription: DIP, Plastic, 16-Pin, Row Spacing 7.62 mm, Pitch 2.54 mm; Code_JEITA: P-DIP16-6.3x19.2-2.54; ComponentLink1Description: Manufacturer Link; ComponentLink1URL: http://sg.renesas.com/fmwk.jsp?cnt=hd74ls_root.jsp&fp=/products/standard_ic/general_purpose_logic/5v_standard_logic/hd74ls/; ComponentLink2Description: Datasheet; ComponentLink2URL: http://documentation.renesas.com/eng/products/logic/rej03d0440_hd74ls155.pdf; ComponentLink3Description: Packaging Specification; ComponentLink3URL: http://sg.renesas.com/media/products/common_info/package/pdf/ic/code/prdp0016ae_b.pdf
footprint PRDP0016AE-B (DIP, 16-Leads, Row Spacing 7.62mm, Pitch 2.54mm, Body 19.2x6.3mm)
pins on every part: 8 GND (power) hidden, 16 VCC (power) hidden
part A pins: 1 DATA 1C (in), 2 STB 1G (in), 4 1~{Y}3 (out), 5 1~{Y}2 (out), 6 1~{Y}1 (out), 7 1~{Y}0 (out), 13 SEL IN A (in)
part B pins: 3 SEL IN B (in), 9 2~{Y}0 (out), 10 2~{Y}1 (out), 11 2~{Y}2 (out), 12 2~{Y}3 (out), 14 STB 2G (in), 15 DATA 2C (in)

## HD74LS156P
designator U?
Dual 2-Line-to-4-Line Decoders / Demultiplexers with Open Collector Outputs; Published: 10-Feb-2010; DatasheetVersion: Rev.3.00, Jul-2005; PackageVersion: Sep-2005; PackageReference: PRDP0016AE-B; Publisher: Altium Limited; PackageDescription: DIP, Plastic, 16-Pin, Row Spacing 7.62 mm, Pitch 2.54 mm; Code_JEITA: P-DIP16-6.3x19.2-2.54; ComponentLink1Description: Manufacturer Link; ComponentLink1URL: http://sg.renesas.com/fmwk.jsp?cnt=hd74ls_root.jsp&fp=/products/standard_ic/general_purpose_logic/5v_standard_logic/hd74ls/; ComponentLink2Description: Datasheet; ComponentLink2URL: http://documentation.renesas.com/eng/products/logic/rej03d0441_hd74ls156.pdf; ComponentLink3Description: Packaging Specification; ComponentLink3URL: http://sg.renesas.com/media/products/common_info/package/pdf/ic/code/prdp0016ae_b.pdf
footprint PRDP0016AE-B (DIP, 16-Leads, Row Spacing 7.62mm, Pitch 2.54mm, Body 19.2x6.3mm)
pins on every part: 8 GND (power) hidden, 16 VCC (power) hidden
part A pins: 1 DATA 1C (in), 2 STB 1G (in), 4 1~{Y}3 (out), 5 1~{Y}2 (out), 6 1~{Y}1 (out), 7 1~{Y}0 (out), 13 SEL IN A (in)
part B pins: 3 SEL IN B (in), 9 2~{Y}0 (out), 10 2~{Y}1 (out), 11 2~{Y}2 (out), 12 2~{Y}3 (out), 14 STB 2G (in), 15 DATA 2C (in)

## HD74LS156RP
designator U?
Dual 2-Line-to-4-Line Decoders / Demultiplexers with Open Collector Outputs; Published: 10-Feb-2010; DatasheetVersion: Rev.3.00, Jul-2005; PackageVersion: Sep-2005; PackageReference: PRSP0016DG-A; Publisher: Altium Limited; PackageDescription: 16-Pin Plastic Small Outline Integrated Circuit, 9.9 x 3.95 mm Body, 1.27 mm Pitch; Code_JEITA: P-SOP16-3.95x9.9-1.27; Code_IPC: SOIC127P600-16; ComponentLink1Description: Manufacturer Link; ComponentLink1URL: http://sg.renesas.com/fmwk.jsp?cnt=hd74ls_root.jsp&fp=/products/standard_ic/general_purpose_logic/5v_standard_logic/hd74ls/; ComponentLink2Description: Datasheet; ComponentLink2URL: http://documentation.renesas.com/eng/products/logic/rej03d0441_hd74ls156.pdf; ComponentLink3Description: Packaging Specification; ComponentLink3URL: http://sg.renesas.com/media/products/common_info/package/pdf/ic/code/prsp0016dg_a.pdf
footprint PRSP0016DG-A_N (SOIC, 16-Leads, Body 9.9x3.95mm, Pitch 1.27mm, IPC Medium Density)
footprint PRSP0016DG-A_L (SOIC, 16-Leads, Body 9.9x3.95mm, Pitch 1.27mm, IPC High Density)
footprint PRSP0016DG-A_M (SOIC, 16-Leads, Body 9.9x3.95mm, Pitch 1.27mm, IPC Low Density)
pins on every part: 8 GND (power) hidden, 16 VCC (power) hidden
part A pins: 1 DATA 1C (in), 2 STB 1G (in), 4 1~{Y}3 (out), 5 1~{Y}2 (out), 6 1~{Y}1 (out), 7 1~{Y}0 (out), 13 SEL IN A (in)
part B pins: 3 SEL IN B (in), 9 2~{Y}0 (out), 10 2~{Y}1 (out), 11 2~{Y}2 (out), 12 2~{Y}3 (out), 14 STB 2G (in), 15 DATA 2C (in)

## HD74LS157FP
designator U?
Quad 2-Line-to-1-Line Data Selectors / Multiplexers with Non-Inverted Outputs; Published: 10-Feb-2010; DatasheetVersion: Rev.2.00, Feb-2005; PackageVersion: Sep-2005; PackageReference: PRSP0016DH-B; Publisher: Altium Limited; PackageDescription: 16-Pin Plastic Small Outline Package 1.27 mm Pitch; Code_JEITA: P-SOP16-5.5x10.06-1.27; ComponentLink1Description: Manufacturer Link; ComponentLink1URL: http://sg.renesas.com/fmwk.jsp?cnt=hd74ls_root.jsp&fp=/products/standard_ic/general_purpose_logic/5v_standard_logic/hd74ls/; ComponentLink2Description: Datasheet; ComponentLink2URL: http://documentation.renesas.com/eng/products/logic/rej03d0442_hd74ls157.pdf; ComponentLink3Description: Packaging Specification; ComponentLink3URL: http://sg.renesas.com/media/products/common_info/package/pdf/ic/code/prsp0016dh_b.pdf
footprint PRSP0016DH-B_N (SOP, 16-Leads, Body 10.06x5.5mm, Pitch 1.27mm, IPC Medium Density)
footprint PRSP0016DH-B_L (SOP, 16-Leads, Body 10.06x5.5mm, Pitch 1.27mm, IPC High Density)
footprint PRSP0016DH-B_M (SOP, 16-Leads, Body 10.06x5.5mm, Pitch 1.27mm, IPC Low Density)
pins: 1 SEL (in), 2 1A (in), 3 1B (in), 4 1Y (out), 5 2A (in), 6 2B (in), 7 2Y (out), 8 GND (power), 9 3Y (out), 10 3B (in), 11 3A (in), 12 4Y (out), 13 4B (in), 14 4A (in), 15 ~{STB} (in), 16 VCC (power)

## HD74LS157P
designator U?
Quad 2-Line-to-1-Line Data Selectors / Multiplexers with Non-Inverted Outputs; Published: 10-Feb-2010; DatasheetVersion: Rev.2.00, Feb-2005; PackageVersion: Sep-2005; PackageReference: PRDP0016AE-B; Publisher: Altium Limited; PackageDescription: DIP, Plastic, 16-Pin, Row Spacing 7.62 mm, Pitch 2.54 mm; Code_JEITA: P-DIP16-6.3x19.2-2.54; ComponentLink1Description: Manufacturer Link; ComponentLink1URL: http://sg.renesas.com/fmwk.jsp?cnt=hd74ls_root.jsp&fp=/products/standard_ic/general_purpose_logic/5v_standard_logic/hd74ls/; ComponentLink2Description: Datasheet; ComponentLink2URL: http://documentation.renesas.com/eng/products/logic/rej03d0442_hd74ls157.pdf; ComponentLink3Description: Packaging Specification; ComponentLink3URL: http://sg.renesas.com/media/products/common_info/package/pdf/ic/code/prdp0016ae_b.pdf
footprint PRDP0016AE-B (DIP, 16-Leads, Row Spacing 7.62mm, Pitch 2.54mm, Body 19.2x6.3mm)
pins: 1 SEL (in), 2 1A (in), 3 1B (in), 4 1Y (out), 5 2A (in), 6 2B (in), 7 2Y (out), 8 GND (power), 9 3Y (out), 10 3B (in), 11 3A (in), 12 4Y (out), 13 4B (in), 14 4A (in), 15 ~{STB} (in), 16 VCC (power)

## HD74LS157RP
designator U?
Quad 2-Line-to-1-Line Data Selectors / Multiplexers with Non-Inverted Outputs; Published: 10-Feb-2010; DatasheetVersion: Rev.2.00, Feb-2005; PackageVersion: Sep-2005; PackageReference: PRSP0016DG-A; Publisher: Altium Limited; PackageDescription: 16-Pin Plastic Small Outline Integrated Circuit, 9.9 x 3.95 mm Body, 1.27 mm Pitch; Code_JEITA: P-SOP16-3.95x9.9-1.27; Code_IPC: SOIC127P600-16; ComponentLink1Description: Manufacturer Link; ComponentLink1URL: http://sg.renesas.com/fmwk.jsp?cnt=hd74ls_root.jsp&fp=/products/standard_ic/general_purpose_logic/5v_standard_logic/hd74ls/; ComponentLink2Description: Datasheet; ComponentLink2URL: http://documentation.renesas.com/eng/products/logic/rej03d0442_hd74ls157.pdf; ComponentLink3Description: Packaging Specification; ComponentLink3URL: http://sg.renesas.com/media/products/common_info/package/pdf/ic/code/prsp0016dg_a.pdf
footprint PRSP0016DG-A_N (SOIC, 16-Leads, Body 9.9x3.95mm, Pitch 1.27mm, IPC Medium Density)
footprint PRSP0016DG-A_L (SOIC, 16-Leads, Body 9.9x3.95mm, Pitch 1.27mm, IPC High Density)
footprint PRSP0016DG-A_M (SOIC, 16-Leads, Body 9.9x3.95mm, Pitch 1.27mm, IPC Low Density)
pins: 1 SEL (in), 2 1A (in), 3 1B (in), 4 1Y (out), 5 2A (in), 6 2B (in), 7 2Y (out), 8 GND (power), 9 3Y (out), 10 3B (in), 11 3A (in), 12 4Y (out), 13 4B (in), 14 4A (in), 15 ~{STB} (in), 16 VCC (power)

## HD74LS161AFP
designator U?
Synchronous 4-bit Binary Counter with Direct Clear; Published: 10-Feb-2010; DatasheetVersion: Rev.2.00, Feb-2005; PackageVersion: Sep-2005; PackageReference: PRSP0016DH-B; Publisher: Altium Limited; PackageDescription: 16-Pin Plastic Small Outline Package 1.27 mm Pitch; Code_JEITA: P-SOP16-5.5x10.06-1.27; ComponentLink1Description: Manufacturer Link; ComponentLink1URL: http://sg.renesas.com/fmwk.jsp?cnt=hd74ls_root.jsp&fp=/products/standard_ic/general_purpose_logic/5v_standard_logic/hd74ls/; ComponentLink2Description: Datasheet; ComponentLink2URL: http://documentation.renesas.com/eng/products/logic/rej03d0445_hd74ls161a.pdf; ComponentLink3Description: Packaging Specification; ComponentLink3URL: http://sg.renesas.com/media/products/common_info/package/pdf/ic/code/prsp0016dh_b.pdf
footprint PRSP0016DH-B_N (SOP, 16-Leads, Body 10.06x5.5mm, Pitch 1.27mm, IPC Medium Density)
footprint PRSP0016DH-B_L (SOP, 16-Leads, Body 10.06x5.5mm, Pitch 1.27mm, IPC High Density)
footprint PRSP0016DH-B_M (SOP, 16-Leads, Body 10.06x5.5mm, Pitch 1.27mm, IPC Low Density)
pins: 1 ~{CLR} (in), 2 CK (in), 3 A (in), 4 B (in), 5 C (in), 6 D (in), 7 ENP (in), 8 GND (power), 9 ~{LOAD} (in), 10 ENT (in), 11 QD (out), 12 QC (out), 13 QB (out), 14 QA (out), 15 CARRY (out), 16 VCC (power)

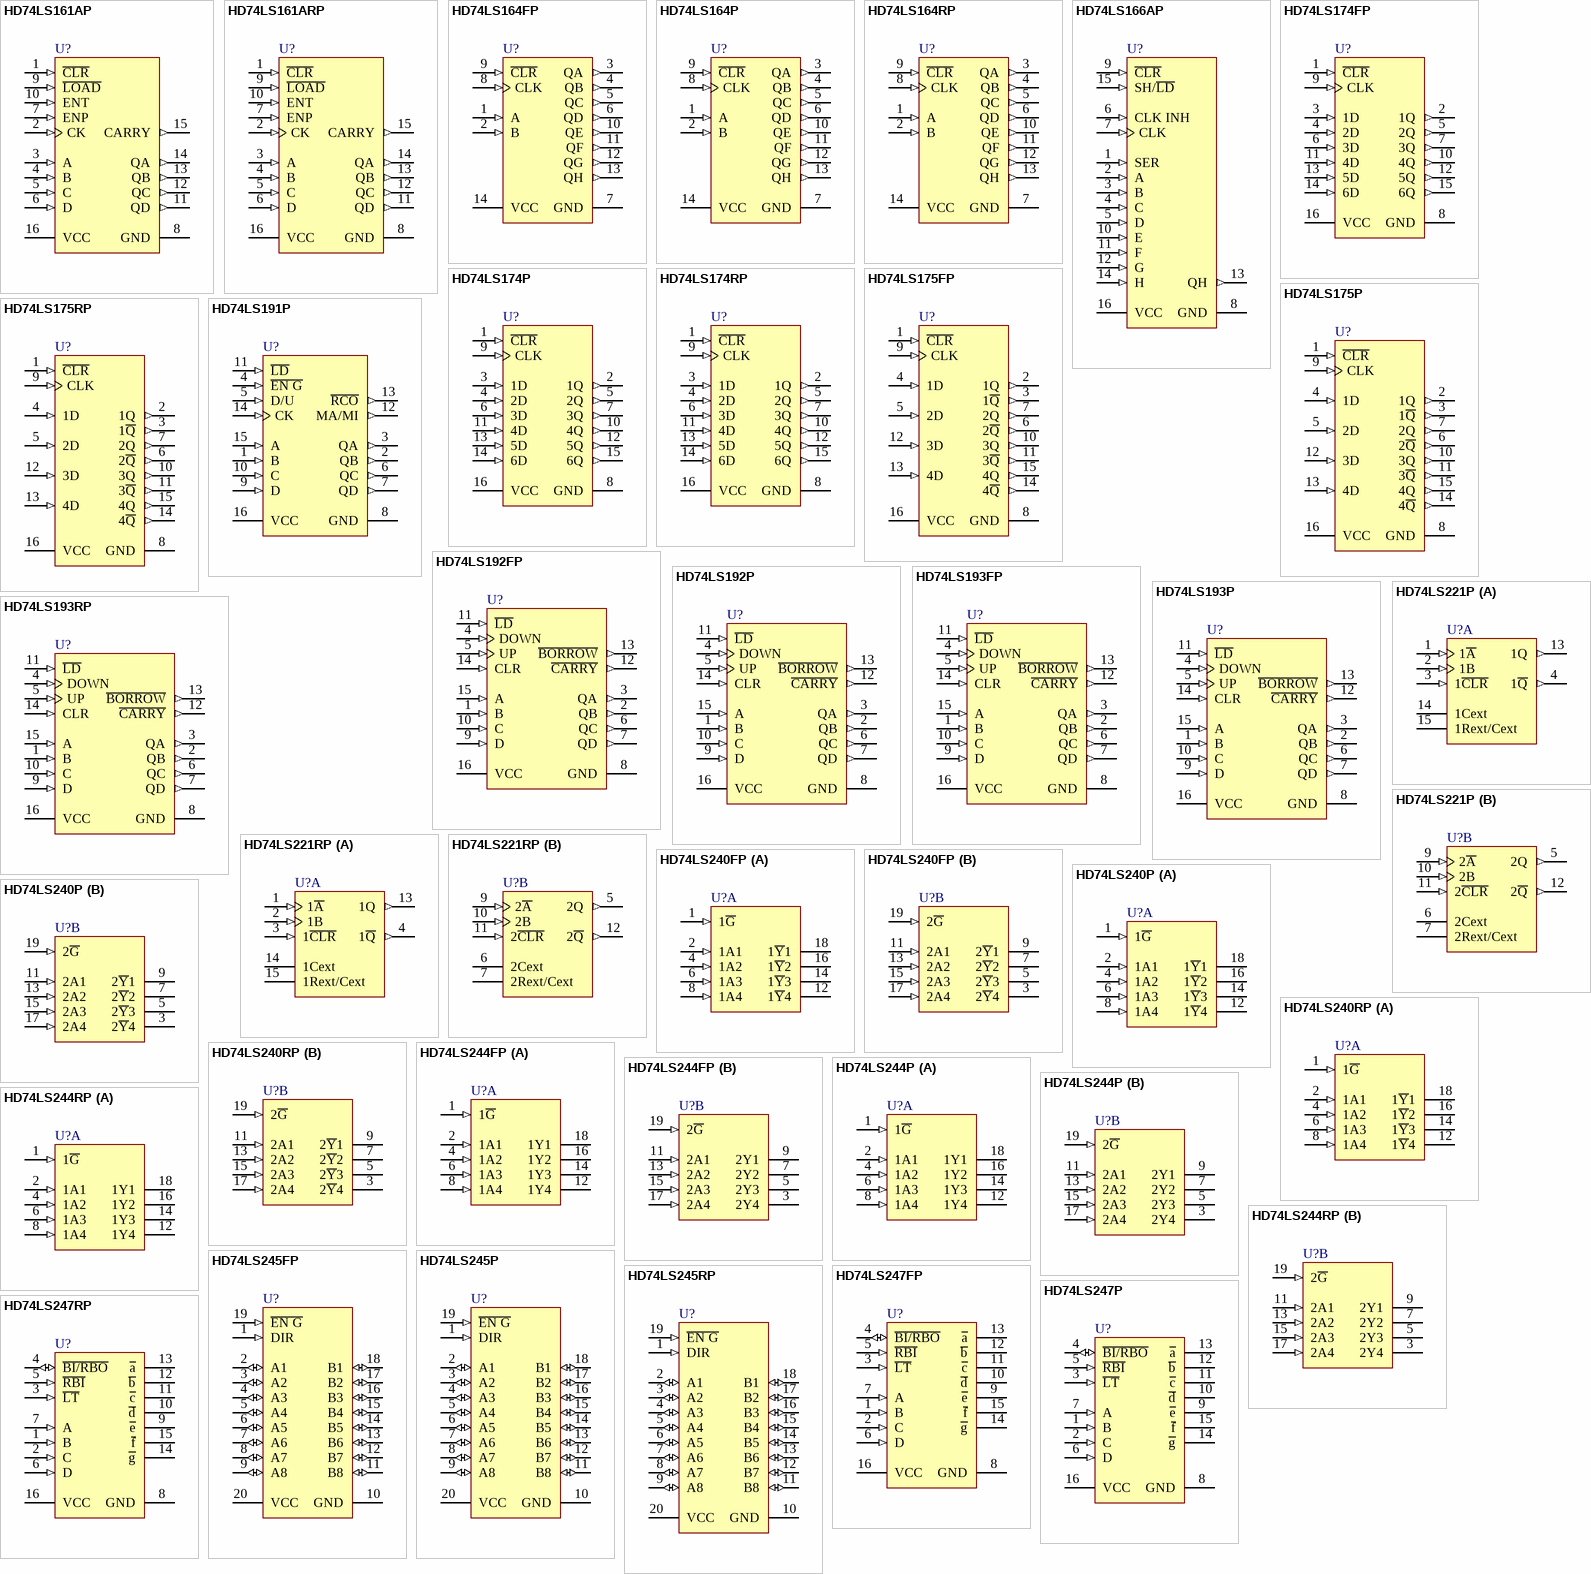
[diagram p36: symbols HD74LS161AP to HD74LS247RP]

## HD74LS161AP
designator U?
Synchronous 4-bit Binary Counter with Direct Clear; Published: 10-Feb-2010; DatasheetVersion: Rev.2.00, Feb-2005; PackageVersion: Sep-2005; PackageReference: PRDP0016AE-B; Publisher: Altium Limited; PackageDescription: DIP, Plastic, 16-Pin, Row Spacing 7.62 mm, Pitch 2.54 mm; Code_JEITA: P-DIP16-6.3x19.2-2.54; ComponentLink1Description: Manufacturer Link; ComponentLink1URL: http://sg.renesas.com/fmwk.jsp?cnt=hd74ls_root.jsp&fp=/products/standard_ic/general_purpose_logic/5v_standard_logic/hd74ls/; ComponentLink2Description: Datasheet; ComponentLink2URL: http://documentation.renesas.com/eng/products/logic/rej03d0445_hd74ls161a.pdf; ComponentLink3Description: Packaging Specification; ComponentLink3URL: http://sg.renesas.com/media/products/common_info/package/pdf/ic/code/prdp0016ae_b.pdf
footprint PRDP0016AE-B (DIP, 16-Leads, Row Spacing 7.62mm, Pitch 2.54mm, Body 19.2x6.3mm)
pins: 1 ~{CLR} (in), 2 CK (in), 3 A (in), 4 B (in), 5 C (in), 6 D (in), 7 ENP (in), 8 GND (power), 9 ~{LOAD} (in), 10 ENT (in), 11 QD (out), 12 QC (out), 13 QB (out), 14 QA (out), 15 CARRY (out), 16 VCC (power)

## HD74LS161ARP
designator U?
Synchronous 4-bit Binary Counter with Direct Clear; Published: 10-Feb-2010; DatasheetVersion: Rev.2.00, Feb-2005; PackageVersion: Sep-2005; PackageReference: PRSP0016DG-A; Publisher: Altium Limited; PackageDescription: 16-Pin Plastic Small Outline Integrated Circuit, 9.9 x 3.95 mm Body, 1.27 mm Pitch; Code_JEITA: P-SOP16-3.95x9.9-1.27; Code_IPC: SOIC127P600-16; ComponentLink1Description: Manufacturer Link; ComponentLink1URL: http://sg.renesas.com/fmwk.jsp?cnt=hd74ls_root.jsp&fp=/products/standard_ic/general_purpose_logic/5v_standard_logic/hd74ls/; ComponentLink2Description: Datasheet; ComponentLink2URL: http://documentation.renesas.com/eng/products/logic/rej03d0445_hd74ls161a.pdf; ComponentLink3Description: Packaging Specification; ComponentLink3URL: http://sg.renesas.com/media/products/common_info/package/pdf/ic/code/prsp0016dg_a.pdf
footprint PRSP0016DG-A_N (SOIC, 16-Leads, Body 9.9x3.95mm, Pitch 1.27mm, IPC Medium Density)
footprint PRSP0016DG-A_L (SOIC, 16-Leads, Body 9.9x3.95mm, Pitch 1.27mm, IPC High Density)
footprint PRSP0016DG-A_M (SOIC, 16-Leads, Body 9.9x3.95mm, Pitch 1.27mm, IPC Low Density)
pins: 1 ~{CLR} (in), 2 CK (in), 3 A (in), 4 B (in), 5 C (in), 6 D (in), 7 ENP (in), 8 GND (power), 9 ~{LOAD} (in), 10 ENT (in), 11 QD (out), 12 QC (out), 13 QB (out), 14 QA (out), 15 CARRY (out), 16 VCC (power)

## HD74LS164FP
designator U?
8-bit Serial-In, Parallel-Out Shift Register; Published: 10-Feb-2010; DatasheetVersion: Rev.2.00, Feb-2005; PackageVersion: Sep-2005; PackageReference: PRSP0014DF-B; Publisher: Altium Limited; PackageDescription: 14-Pin Plastic Small Outline Package, 10.06 x 5.5 mm Body, 1.27 mm Pitch; Code_JEITA: P-SOP14-5.5x10.06-1.27; ComponentLink1Description: Manufacturer Link; ComponentLink1URL: http://sg.renesas.com/fmwk.jsp?cnt=hd74ls_root.jsp&fp=/products/standard_ic/general_purpose_logic/5v_standard_logic/hd74ls/; ComponentLink2Description: Datasheet; ComponentLink2URL: http://documentation.renesas.com/eng/products/logic/rej03d0448_hd74ls164.pdf; ComponentLink3Description: Packaging Specification; ComponentLink3URL: http://sg.renesas.com/media/products/common_info/package/pdf/ic/code/prsp0014df_b.pdf
footprint PRSP0014DF-B_N (SOP, 14-Leads, Body 10.06x5.5mm, Pitch 1.27mm, IPC Medium Density)
footprint PRSP0014DF-B_L (SOP, 14-Leads, Body 10.06x5.5mm, Pitch 1.27mm, IPC High Density)
footprint PRSP0014DF-B_M (SOP, 14-Leads, Body 10.06x5.5mm, Pitch 1.27mm, IPC Low Density)
pins: 1 A (in), 2 B (in), 3 QA (out), 4 QB (out), 5 QC (out), 6 QD (out), 7 GND (power), 8 CLK (in), 9 ~{CLR} (in), 10 QE (out), 11 QF (out), 12 QG (out), 13 QH (out), 14 VCC (power)

## HD74LS164P
designator U?
8-bit Serial-In, Parallel-Out Shift Register; Published: 10-Feb-2010; DatasheetVersion: Rev.2.00, Feb-2005; PackageVersion: Sep-2005; PackageReference: PRDP0014AB-B; Publisher: Altium Limited; PackageDescription: 14-Pin Plastic DIP, 19.2 x 6.3 mm Body, 7.62 mm Row Spacing, Pitch 2.54 mm; Code_JEITA: P-DIP14-6.3x19.2-2.54; ComponentLink1Description: Manufacturer Link; ComponentLink1URL: http://sg.renesas.com/fmwk.jsp?cnt=hd74ls_root.jsp&fp=/products/standard_ic/general_purpose_logic/5v_standard_logic/hd74ls/; ComponentLink2Description: Datasheet; ComponentLink2URL: http://documentation.renesas.com/eng/products/logic/rej03d0448_hd74ls164.pdf; ComponentLink3Description: Packaging Specification; ComponentLink3URL: http://sg.renesas.com/media/products/common_info/package/pdf/ic/code/prdp0014ab_b.pdf
footprint PRDP0014AB-B (DIP, 14-Leads, Row Spacing 7.62mm, Pitch 2.54mm, Body 19.2x6.3mm)
pins: 1 A (in), 2 B (in), 3 QA (out), 4 QB (out), 5 QC (out), 6 QD (out), 7 GND (power), 8 CLK (in), 9 ~{CLR} (in), 10 QE (out), 11 QF (out), 12 QG (out), 13 QH (out), 14 VCC (power)

## HD74LS164RP
designator U?
8-bit Serial-In, Parallel-Out Shift Register; Published: 10-Feb-2010; DatasheetVersion: Rev.2.00, Feb-2005; PackageVersion: Sep-2005; PackageReference: PRSP0014DE-A; Publisher: Altium Limited; PackageDescription: 14-Pin Plastic Small Outline Integrated Circuit 8.65 x 3.95 mm Body, 1.27 mm Pitch; Code_JEITA: P-SOP14-3.95x8.65-1.27; ComponentLink1Description: Manufacturer Link; ComponentLink1URL: http://sg.renesas.com/fmwk.jsp?cnt=hd74ls_root.jsp&fp=/products/standard_ic/general_purpose_logic/5v_standard_logic/hd74ls/; ComponentLink2Description: Datasheet; ComponentLink2URL: http://documentation.renesas.com/eng/products/logic/rej03d0448_hd74ls164.pdf; ComponentLink3Description: Packaging Specification; ComponentLink3URL: http://sg.renesas.com/media/products/common_info/package/pdf/ic/code/prsp0014de_a.pdf
footprint PRSP0014DE-A_N (SOIC, 14-Leads, Body 8.65x3.95mm, Pitch 1.27mm, IPC Medium Density)
footprint PRSP0014DE-A_L (SOIC, 14-Leads, Body 8.65x3.95mm, Pitch 1.27mm, IPC High Density)
footprint PRSP0014DE-A_M (SOIC, 14-Leads, Body 8.65x3.95mm, Pitch 1.27mm, IPC Low Density)
pins: 1 A (in), 2 B (in), 3 QA (out), 4 QB (out), 5 QC (out), 6 QD (out), 7 GND (power), 8 CLK (in), 9 ~{CLR} (in), 10 QE (out), 11 QF (out), 12 QG (out), 13 QH (out), 14 VCC (power)

## HD74LS166AP
designator U?
8-bit Shift Register; Published: 10-Feb-2010; DatasheetVersion: Rev.4.00, May-2006; PackageVersion: Sep-2005; PackageReference: PRDP0016AE-B; Publisher: Altium Limited; PackageDescription: DIP, Plastic, 16-Pin, Row Spacing 7.62 mm, Pitch 2.54 mm; Code_JEITA: P-DIP16-6.3x19.2-2.54; ComponentLink1Description: Manufacturer Link; ComponentLink1URL: http://sg.renesas.com/fmwk.jsp?cnt=hd74ls_root.jsp&fp=/products/standard_ic/general_purpose_logic/5v_standard_logic/hd74ls/; ComponentLink2Description: Datasheet; ComponentLink2URL: http://documentation.renesas.com/eng/products/logic/rej03d0450_hd74ls166a.pdf; ComponentLink3Description: Packaging Specification; ComponentLink3URL: http://sg.renesas.com/media/products/common_info/package/pdf/ic/code/prdp0016ae_b.pdf
footprint PRDP0016AE-B (DIP, 16-Leads, Row Spacing 7.62mm, Pitch 2.54mm, Body 19.2x6.3mm)
pins: 1 SER (in), 2 A (in), 3 B (in), 4 C (in), 5 D (in), 6 CLK INH (in), 7 CLK (in), 8 GND (power), 9 ~{CLR} (in), 10 E (in), 11 F (in), 12 G (in), 13 QH (out), 14 H (in), 15 SH/~{LD} (in), 16 VCC (power)

## HD74LS174FP
designator U?
Hex D-Type Flip-Flops with Clear; Published: 10-Feb-2010; DatasheetVersion: Rev.3.00, Jul-2005; PackageVersion: Sep-2005; PackageReference: PRSP0016DH-B; Publisher: Altium Limited; PackageDescription: 16-Pin Plastic Small Outline Package 1.27 mm Pitch; Code_JEITA: P-SOP16-5.5x10.06-1.27; ComponentLink1Description: Manufacturer Link; ComponentLink1URL: http://sg.renesas.com/fmwk.jsp?cnt=hd74ls_root.jsp&fp=/products/standard_ic/general_purpose_logic/5v_standard_logic/hd74ls/; ComponentLink2Description: Datasheet; ComponentLink2URL: http://documentation.renesas.com/eng/products/logic/rej03d0451_hd74ls174.pdf; ComponentLink3Description: Packaging Specification; ComponentLink3URL: http://sg.renesas.com/media/products/common_info/package/pdf/ic/code/prsp0016dh_b.pdf
footprint PRSP0016DH-B_N (SOP, 16-Leads, Body 10.06x5.5mm, Pitch 1.27mm, IPC Medium Density)
footprint PRSP0016DH-B_L (SOP, 16-Leads, Body 10.06x5.5mm, Pitch 1.27mm, IPC High Density)
footprint PRSP0016DH-B_M (SOP, 16-Leads, Body 10.06x5.5mm, Pitch 1.27mm, IPC Low Density)
pins: 1 ~{CLR} (in), 2 1Q (out), 3 1D (in), 4 2D (in), 5 2Q (out), 6 3D (in), 7 3Q (out), 8 GND (power), 9 CLK (in), 10 4Q (out), 11 4D (in), 12 5Q (out), 13 5D (in), 14 6D (in), 15 6Q (out), 16 VCC (power)

## HD74LS174P
designator U?
Hex D-Type Flip-Flops with Clear; Published: 10-Feb-2010; DatasheetVersion: Rev.3.00, Jul-2005; PackageVersion: Sep-2005; PackageReference: PRDP0016AE-B; Publisher: Altium Limited; PackageDescription: DIP, Plastic, 16-Pin, Row Spacing 7.62 mm, Pitch 2.54 mm; Code_JEITA: P-DIP16-6.3x19.2-2.54; ComponentLink1Description: Manufacturer Link; ComponentLink1URL: http://sg.renesas.com/fmwk.jsp?cnt=hd74ls_root.jsp&fp=/products/standard_ic/general_purpose_logic/5v_standard_logic/hd74ls/; ComponentLink2Description: Datasheet; ComponentLink2URL: http://documentation.renesas.com/eng/products/logic/rej03d0451_hd74ls174.pdf; ComponentLink3Description: Packaging Specification; ComponentLink3URL: http://sg.renesas.com/media/products/common_info/package/pdf/ic/code/prdp0016ae_b.pdf
footprint PRDP0016AE-B (DIP, 16-Leads, Row Spacing 7.62mm, Pitch 2.54mm, Body 19.2x6.3mm)
pins: 1 ~{CLR} (in), 2 1Q (out), 3 1D (in), 4 2D (in), 5 2Q (out), 6 3D (in), 7 3Q (out), 8 GND (power), 9 CLK (in), 10 4Q (out), 11 4D (in), 12 5Q (out), 13 5D (in), 14 6D (in), 15 6Q (out), 16 VCC (power)